# Altium footprint library PBSS4260PANP.PcbLib: 1 footprints
Each footprint in its own frame and in the unit in brackets; x right, y up, seen from the top. Pads: shape width x height; smd on the part's side, far side on the other; paste and mask are expansions set on the pad; w line width, h text height; cw(c..) or ccw(c..) is an arc to the next point about the centre after c.
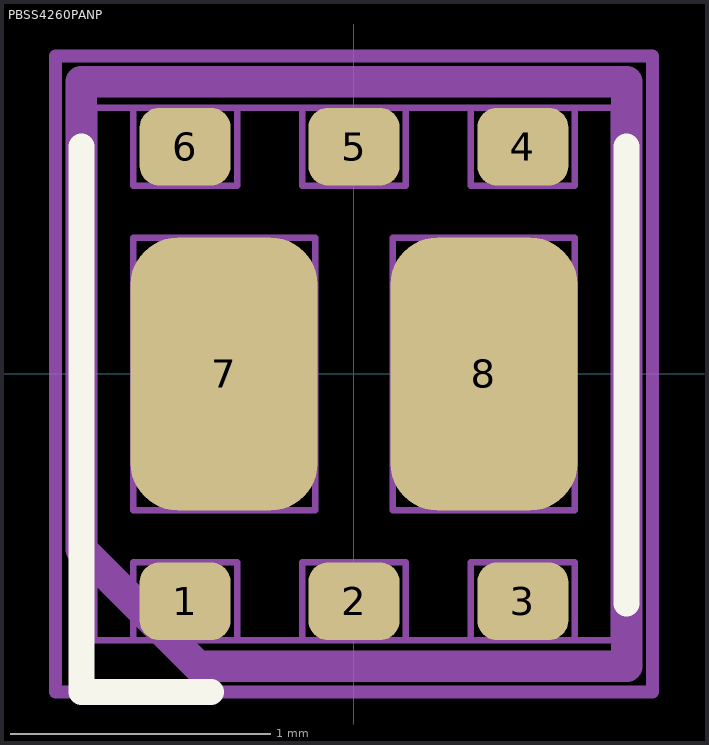
[diagram p0: the footprint, top view; thin cyan lines are the x and y axes]

## PBSS4260PANP [mm]
pads (8):
  rrect50% 0.35x0.3 smd mask+0.05: 1(-0.65,-0.875) 2(0,-0.875) 3(0.65,-0.875) 4(0.65,0.875) 5(0,0.875) 6(-0.65,0.875)
  rrect50% 0.72x1.05 smd mask+0.05: 7(-0.5,0) 8(0.5,0)
Top Overlay:
  lines w0.1: -1.05,-0.883 -1.05,0.875 ; -1.05,-0.875 -1.05,-1.225 -0.55,-1.225 ; 1.05,-0.883 1.05,0.875
Mechanical 3:
  lines w0.12: -1.05,-0.675 -0.6,-1.125 1.05,-1.125 1.05,1.125 -1.05,1.125 -1.05,-0.675
Mechanical 5:
  lines w0.025: -0.5,-0.525 -0.15,-0.525 -0.15,0.525 -0.85,0.525 -0.85,-0.525 -0.45,-0.525 ; 0.5,-0.525 0.85,-0.525 0.85,0.525 0.15,0.525 0.15,-0.525 0.55,-0.525 ; 0.8,-1.025 -0.85,-1.025 ; -0.85,-1.025 -1,-1.025 -1,1.025 -0.5,1.025 -0.2,1.025 ; -0.85,-1.025 -0.65,-1.025 -0.45,-1.025 -0.45,-0.725 -0.85,-0.725 -0.85,-1.025 ; -0.2,1.025 0.2,1.025 ; -0.2,1.025 -0.2,0.725 0,0.725 0.2,0.725 0.2,1.025 ; 0.2,1.025 0.85,1.025 ; 0.85,-1.025 1,-1.025 1,1.025 0.85,1.025 ; 0.85,-1.025 0.85,-0.725 0.45,-0.725 0.45,-1.025 0.65,-1.025 0.85,-1.025 ; 0.85,1.025 0.45,1.025 0.45,0.725 0.65,0.725 0.85,0.725 0.85,1.025 ; -0.85,0.725 -0.85,1.025 -0.45,1.025 -0.45,0.725 -0.65,0.725 -0.85,0.725 ; -0.2,-1.025 0,-1.025 0.2,-1.025 0.2,-0.725 -0.2,-0.725 -0.2,-1.025
Mechanical 7:
  lines w0.05: -0.2,-1.225 1.15,-1.225 1.15,1.225 -1.15,1.225 -1.15,-1.225 -0.1,-1.225
Mechanical 9 (Mech9):
  text "'.Designator'" at -5.65,-0.3 h1.02
3D body "SOT1118.step": height 0.61, standoff -0.01, extent -1,-1 1,1
3D body: height 1, standoff 0, extent -1.15,-1.225 1.15,1.225